# Altium footprint library WSN2.PcbLib: 1 footprints
Each footprint in its own frame and in the unit in brackets; x right, y up, seen from the top. Pads: shape width x height; smd on the part's side, far side on the other; paste and mask are expansions set on the pad; w line width, h text height; cw(c..) or ccw(c..) is an arc to the next point about the centre after c.
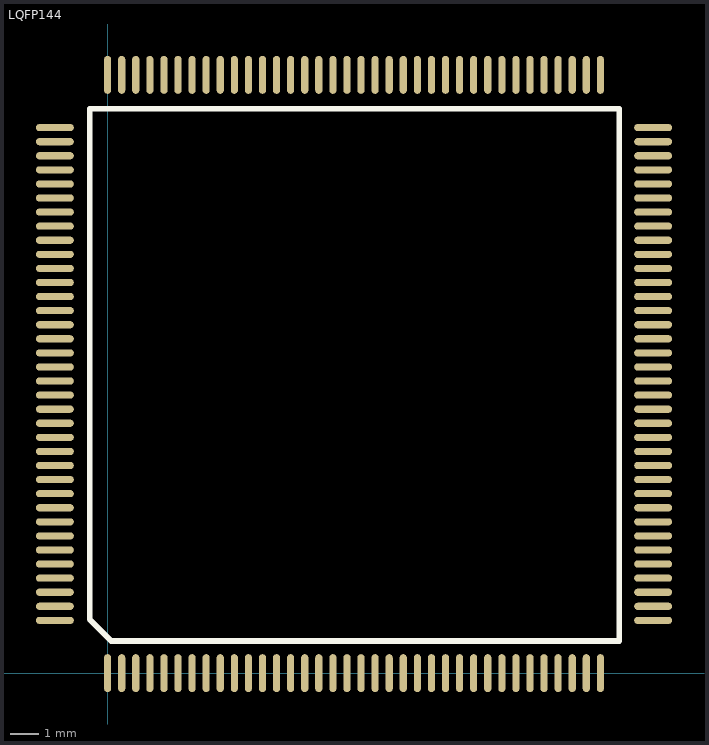
[diagram p0: the footprint, top view; thin cyan lines are the x and y axes]

## LQFP144 [mm]
pads (144):
  oval 0.254x1.35 smd: 1(0,0) 2(0.5,0) 3(1,0) 4(1.5,0) 5(2,0) 6(2.5,0) 7(3,0) 8(3.5,0) 9(4,0) 10(4.5,0) 11(5,0) 12(5.5,0) 13(6,0) 14(6.5,0) 15(7,0) 16(7.5,0) 17(8,0) 18(8.5,0) 19(9,0) 20(9.5,0) 21(10,0) 22(10.5,0) 23(11,0) 24(11.5,0) 25(12,0) 26(12.5,0) 27(13,0) 28(13.5,0) 29(14,0) 30(14.5,0) 31(15,0) 32(15.5,0) 33(16,0) 34(16.5,0) 35(17,0) 36(17.5,0) 73(17.5,21.25) 74(17,21.25) 75(16.5,21.25) 76(16,21.25) 77(15.5,21.25) 78(15,21.25) 79(14.5,21.25) 80(14,21.25) 81(13.5,21.25) 82(13,21.25) 83(12.5,21.25) 84(12,21.25) 85(11.5,21.25) 86(11,21.25) 87(10.5,21.25) 88(10,21.25) 89(9.5,21.25) 90(9,21.25) 91(8.5,21.25) 92(8,21.25) 93(7.5,21.25) 94(7,21.25) 95(6.5,21.25) 96(6,21.25) 97(5.5,21.25) 98(5,21.25) 99(4.5,21.25) 100(4,21.25) 101(3.5,21.25) 102(3,21.25) 103(2.5,21.25) 104(2,21.25) 105(1.5,21.25) 106(1,21.25) 107(0.5,21.25) 108(0,21.25)
  oval 1.35x0.254 smd: 37(19.375,1.875) 38(19.375,2.375) 39(19.375,2.875) 40(19.375,3.375) 41(19.375,3.875) 42(19.375,4.375) 43(19.375,4.875) 44(19.375,5.375) 45(19.375,5.875) 46(19.375,6.375) 47(19.375,6.875) 48(19.375,7.375) 49(19.375,7.875) 50(19.375,8.375) 51(19.375,8.875) 52(19.375,9.375) 53(19.375,9.875) 54(19.375,10.375) 55(19.375,10.875) 56(19.375,11.375) 57(19.375,11.875) 58(19.375,12.375) 59(19.375,12.875) 60(19.375,13.375) 61(19.375,13.875) 62(19.375,14.375) 63(19.375,14.875) 64(19.375,15.375) 65(19.375,15.875) 66(19.375,16.375) 67(19.375,16.875) 68(19.375,17.375) 69(19.375,17.875) 70(19.375,18.375) 71(19.375,18.875) 72(19.375,19.375) 109(-1.875,19.375) 110(-1.875,18.875) 111(-1.875,18.375) 112(-1.875,17.875) 113(-1.875,17.375) 114(-1.875,16.875) 115(-1.875,16.375) 116(-1.875,15.875) 117(-1.875,15.375) 118(-1.875,14.875) 119(-1.875,14.375) 120(-1.875,13.875) 121(-1.875,13.375) 122(-1.875,12.875) 123(-1.875,12.375) 124(-1.875,11.875) 125(-1.875,11.375) 126(-1.875,10.875) 127(-1.875,10.375) 128(-1.875,9.875) 129(-1.875,9.375) 130(-1.875,8.875) 131(-1.875,8.375) 132(-1.875,7.875) 133(-1.875,7.375) 134(-1.875,6.875) 135(-1.875,6.375) 136(-1.875,5.875) 137(-1.875,5.375) 138(-1.875,4.875) 139(-1.875,4.375) 140(-1.875,3.875) 141(-1.875,3.375) 142(-1.875,2.875) 143(-1.875,2.375) 144(-1.875,1.875)
Top Overlay:
  lines w0.2: -0.635,1.905 0.127,1.143 18.165,1.143 18.165,20.04 -0.635,20.04 -0.635,1.905